# EAGLE library part 1-5499786-1 (library FSAE Electric)
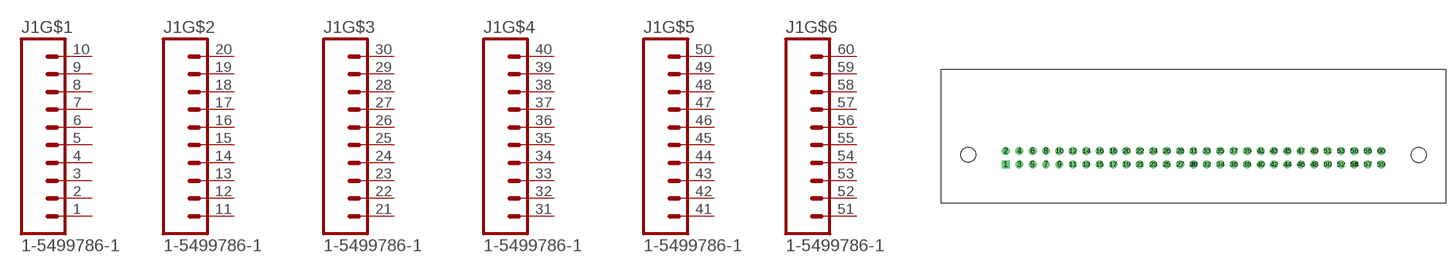
[diagram p35: symbol with the pads of 1-5499786-1; footprint 1-5499786-1]

Designator prefix J1; gates G$1=M10 G$2=M10 G$3=M10 G$4=M10 G$5=M10 G$6=M10

## 1-5499786-1  [1-5499786-1]
1  G$1:1  pas
2  G$1:2  pas
3  G$1:3  pas
4  G$1:4  pas
5  G$1:5  pas
6  G$1:6  pas
7  G$1:7  pas
8  G$1:8  pas
9  G$1:9  pas
10  G$1:10  pas
11  G$2:1  pas
12  G$2:2  pas
13  G$2:3  pas
14  G$2:4  pas
15  G$2:5  pas
16  G$2:6  pas
17  G$2:7  pas
18  G$2:8  pas
19  G$2:9  pas
20  G$2:10  pas
21  G$3:1  pas
22  G$3:2  pas
23  G$3:3  pas
24  G$3:4  pas
25  G$3:5  pas
26  G$3:6  pas
27  G$3:7  pas
28  G$3:8  pas
29  G$3:9  pas
30  G$3:10  pas
31  G$4:1  pas
32  G$4:2  pas
33  G$4:3  pas
34  G$4:4  pas
35  G$4:5  pas
36  G$4:6  pas
37  G$4:7  pas
38  G$4:8  pas
39  G$4:9  pas
40  G$4:10  pas
41  G$5:1  pas
42  G$5:2  pas
43  G$5:3  pas
44  G$5:4  pas
45  G$5:5  pas
46  G$5:6  pas
47  G$5:7  pas
48  G$5:8  pas
49  G$5:9  pas
50  G$5:10  pas
51  G$6:1  pas
52  G$6:2  pas
53  G$6:3  pas
54  G$6:4  pas
55  G$6:5  pas
56  G$6:6  pas
57  G$6:7  pas
58  G$6:8  pas
59  G$6:9  pas
60  G$6:10  pas

## Footprint 1-5499786-1 (pad centres in mm)
drill 1 square: 1 -35.56,-1.27
drill 1: 2 -35.56,1.27; 3 -33.02,-1.27; 4 -33.02,1.27; 5 -30.48,-1.27; 6 -30.48,1.27; 7 -27.94,-1.27; 8 -27.94,1.27; 9 -25.4,-1.27; 10 -25.4,1.27; 11 -22.86,-1.27; 12 -22.86,1.27; 13 -20.32,-1.27; 14 -20.32,1.27; 15 -17.78,-1.27; 16 -17.78,1.27; 17 -15.24,-1.27; 18 -15.24,1.27; 19 -12.7,-1.27; 20 -12.7,1.27; 21 -10.16,-1.27; 22 -10.16,1.27; 23 -7.62,-1.27; 24 -7.62,1.27; 25 -5.08,-1.27; 26 -5.08,1.27; 27 -2.54,-1.27; 28 -2.54,1.27; 29 0,-1.27; 30 0,-1.27; 31 0,1.27; 32 2.54,-1.27; 33 2.54,1.27; 34 5.08,-1.27; 35 5.08,1.27; 36 7.62,-1.27; 37 7.62,1.27; 38 10.16,-1.27; 39 10.16,1.27; 40 12.7,-1.27; 41 12.7,1.27; 42 15.24,-1.27; 43 15.24,1.27; 44 17.78,-1.27; 45 17.78,1.27; 46 20.32,-1.27; 47 20.32,1.27; 48 22.86,-1.27; 49 22.86,1.27; 50 25.4,-1.27; 51 25.4,1.27; 52 27.94,-1.27; 53 27.94,1.27; 54 30.48,-1.27; 55 30.48,-1.27; 56 30.48,1.27; 57 33.02,-1.27; 58 33.02,1.27; 59 35.56,-1.27; 60 35.56,1.27
hole 2.794 at -42.672,0.533
hole 2.794 at 42.647,0.508